# Altium integrated library Inndicator.IntLib: 6 symbols
Pins are listed as number, name and electrical type; pins without a type are passive.

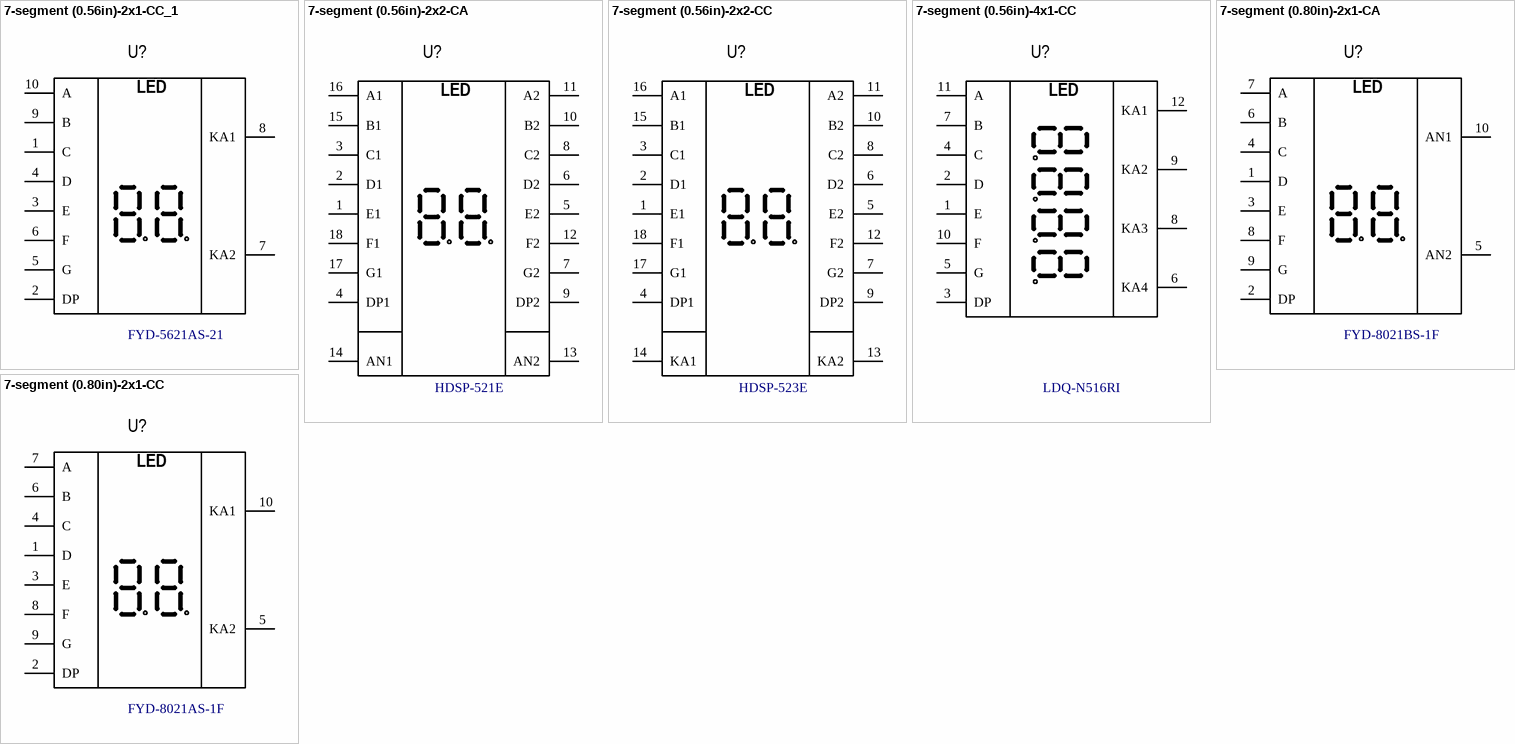
[diagram p0: symbols 7-segment (0.56in)-2x1-CC_1 to 7-segment (0.80in)-2x1-CC]

## 7-segment (0.56in)-2x1-CC_1
designator U?, comment FYD-5621AS-21
Display Modules - LED Character and Numeric Red 7-Segment 2 Character Common Cathode 2.05V 20mA 0.732" H x 0.984" W x 0.315" D (18.60mm x 25.00mm x 8.00mm) 18-DIP (0.600", 15.24mm); Manufacture: ELECTRONICS CO.,LTD; Name: 7-сегментный индикатор; Case: 10-DIP; HelpURL: https://www.chipdip.ru/product/fyd-5621as-21; Value: FYD-5621AS-21; Model: FYD-5621AS-21
footprint 7-segment (10-DIP) 5621
pins: 1 C, 2 DP, 3 E, 4 D, 5 G, 6 F, 7 KA2, 8 KA1, 9 B, 10 A
text: LED

## 7-segment (0.56in)-2x2-CA
designator U?, comment HDSP-521E
Display Modules - LED Character and Numeric Red 7-Segment 2 Character Common Cathode 2.05V 20mA 0.732" H x 0.984" W x 0.315" D (18.60mm x 25.00mm x 8.00mm) 18-DIP (0.600", 15.24mm); Manufacture: Broadcom Limited; Name: 7-сегментный индикатор; Case: 18-DIP; HelpURL: https://www.digikey.com/en/products/detail/broadcom-limited/HDSP-521E/637470?s=N4IgTCBcDaIBIBEDKAFAtAVjARgKYgF0BfIA; Value: HDSP-521E; Model: HDSP-521E
footprint 7-segment (18-DIP) 5621
pins: 1 E1, 2 D1, 3 C1, 4 DP1, 5 E2, 6 D2, 7 G2, 8 C2, 9 DP2, 10 B2, 11 A2, 12 F2, 13 AN2, 14 AN1, 15 B1, 16 A1, 17 G1, 18 F1
text: LED

## 7-segment (0.56in)-2x2-CC
designator U?, comment HDSP-523E
Display Modules - LED Character and Numeric Red 7-Segment 2 Character Common Cathode 2.05V 20mA 0.732" H x 0.984" W x 0.315" D (18.60mm x 25.00mm x 8.00mm) 18-DIP (0.600", 15.24mm); Manufacture: Broadcom Limited; Name: 7-сегментный индикатор; Case: 18-DIP; HelpURL: https://www.digikey.com/en/products/detail/broadcom-limited/HDSP-523E/637471?s=N4IgTCBcDaIBIBEDKAFAtAVjAZgKYgF0BfIA; Value: HDSP-523E; Model: HDSP-523E
footprint 7-segment (18-DIP) 5621
pins: 1 E1, 2 D1, 3 C1, 4 DP1, 5 E2, 6 D2, 7 G2, 8 C2, 9 DP2, 10 B2, 11 A2, 12 F2, 13 KA2, 14 KA1, 15 B1, 16 A1, 17 G1, 18 F1
text: LED

## 7-segment (0.56in)-4x1-CC
designator U?, comment LDQ-N516RI
Display Modules - LED Character and Numeric Red 7-Segment 4 Character Common Cathode 1.8V 10mA 0.748" H x 1.980" W x 0.315" D (19.00mm x 50.30mm x 8.00mm) 12-DIP (0.600", 15.24mm); Manufacture: Lumex Opto/Components Inc.; Name: 7-сегментный индикатор; Case: 12-DIP; HelpURL: https://www.digikey.com/en/products/detail/lumex-opto-components-inc/LDQ-N516RI/252641; Value: LDQ-N516RI; Model: LDQ-N516RI
footprint 7-segment (12-DIP) 5641
pins: 1 E, 2 D, 3 DP, 4 C, 5 G, 6 KA4, 7 B, 8 KA3, 9 KA2, 10 F, 11 A, 12 KA1
text: LED

## 7-segment (0.80in)-2x1-CA
designator U?, comment FYD-8021BS-1F
Display Modules - LED Character and Numeric Red 7-Segment 2 Character Common Cathode 2.05V 20mA 0.732" H x 0.984" W x 0.315" D (18.60mm x 25.00mm x 8.00mm) 18-DIP (0.600", 15.24mm); Manufacture: ELECTRONICS CO.,LTD; Name: 7-сегментный индикатор; Case: 10-DIP; HelpURL: https://otron.ru/media/catalog/product/f/y/fyd-8021a.pdf; Value: FYD-8021BS-1F; Model: FYD-8021BS-1F
footprint 7-segment (10-DIP) 8021
pins: 1 D, 2 DP, 3 E, 4 C, 5 AN2, 6 B, 7 A, 8 F, 9 G, 10 AN1
text: LED

## 7-segment (0.80in)-2x1-CC
designator U?, comment FYD-8021AS-1F
Display Modules - LED Character and Numeric Red 7-Segment 2 Character Common Cathode 2.05V 20mA 0.732" H x 0.984" W x 0.315" D (18.60mm x 25.00mm x 8.00mm) 18-DIP (0.600", 15.24mm); Manufacture: ELECTRONICS CO.,LTD; Name: 7-сегментный индикатор; Case: 10-DIP; HelpURL: https://otron.ru/media/catalog/product/f/y/fyd-8021a.pdf; Value: FYD-8021AS-1F; Model: FYD-8021AS-1F
footprint 7-segment (10-DIP) 8021
pins: 1 D, 2 DP, 3 E, 4 C, 5 KA2, 6 B, 7 A, 8 F, 9 G, 10 KA1
text: LED